# Altium schematic symbol library Battery.SchLib: 23 symbols
Pins are listed as number, name and electrical type; pins without a type are passive.

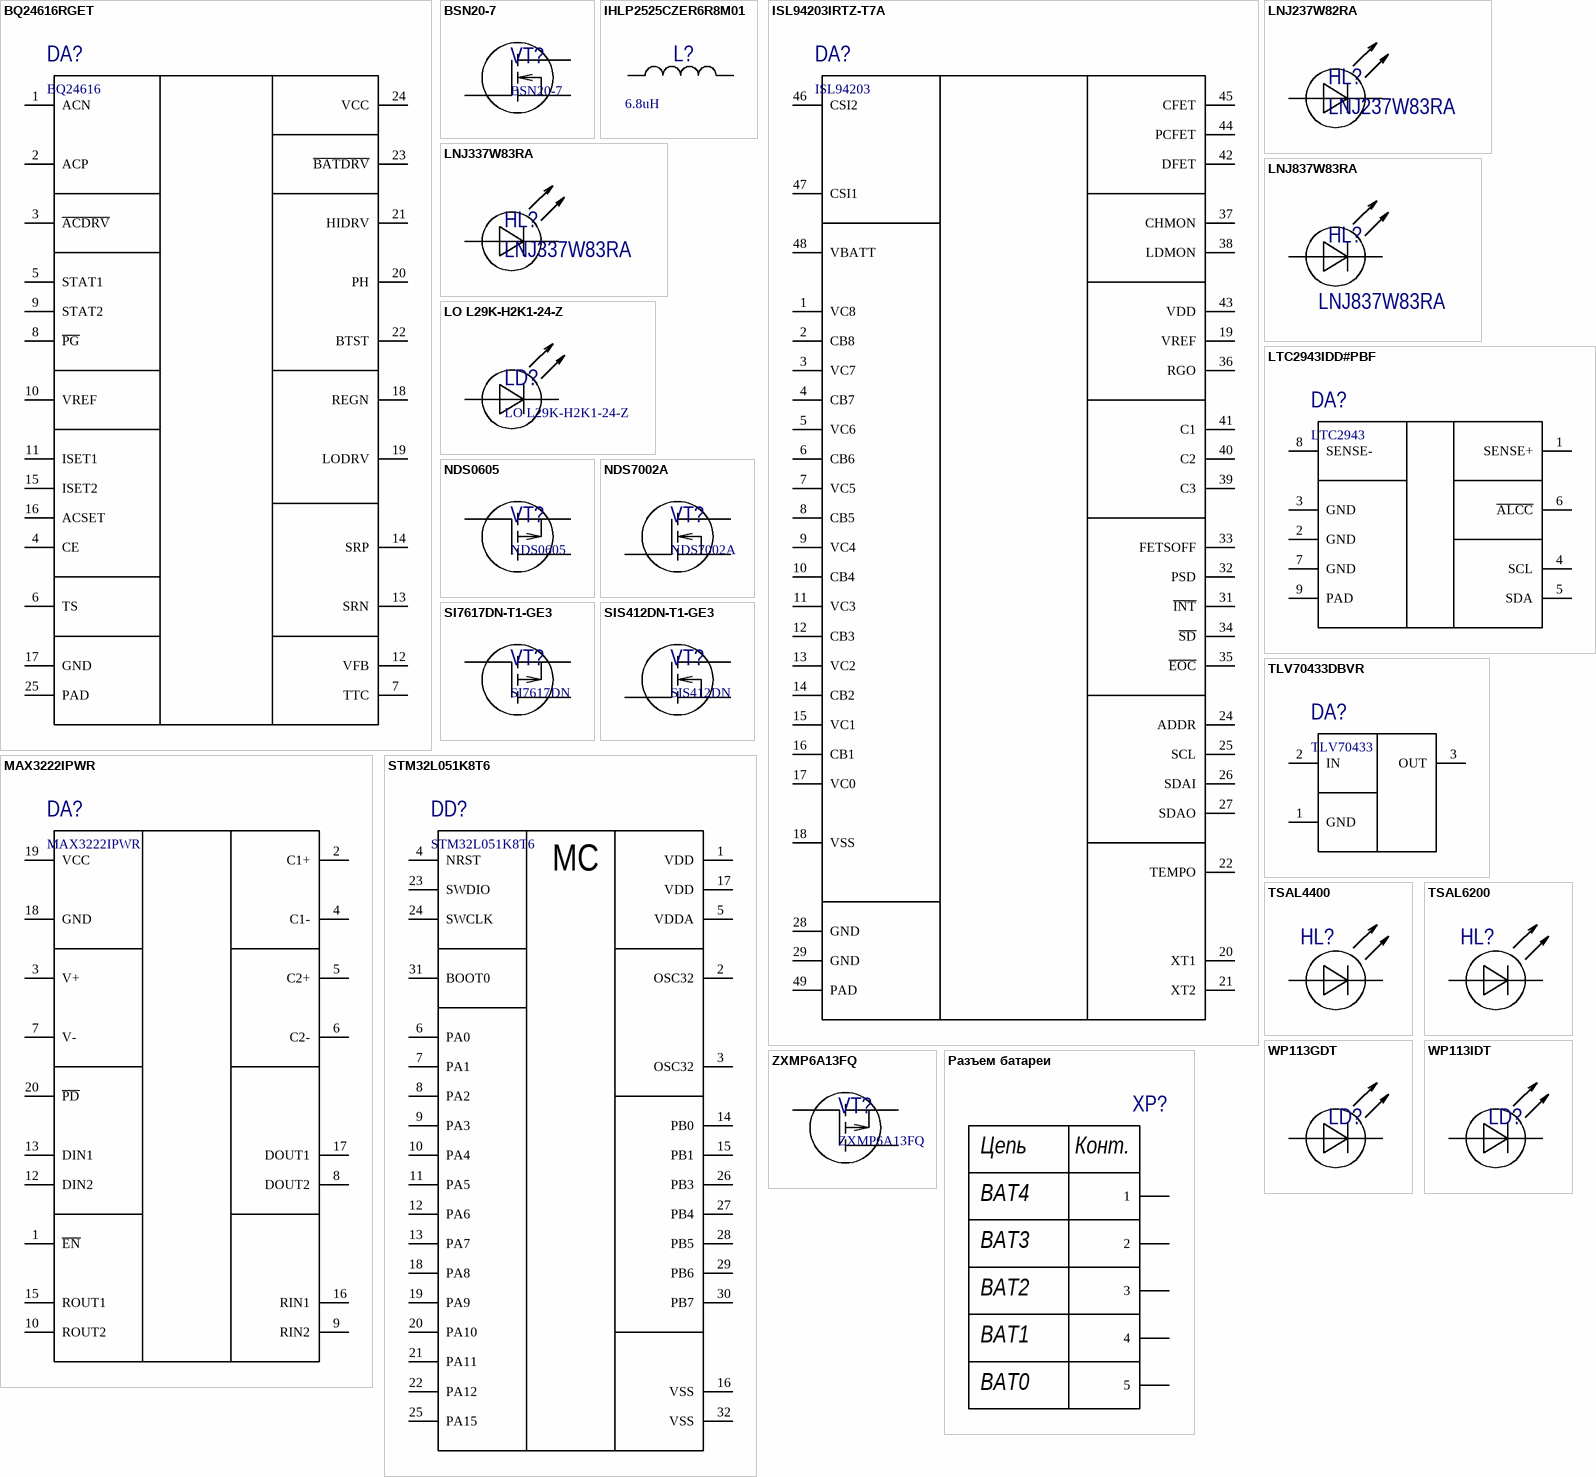
[diagram p0: symbols BQ24616RGET to Разъем батареи]

## BQ24616RGET
designator DA?, comment BQ24616
Stand-Alone Li-Ion Battarey Charger; PartNo: BQ24616RGET; Supplier 1: Digi-Key; Supplier Part Number 1: 296-27632-1-ND
pins: 1 ACN, 2 ACP, 3 ~{ACDRV}, 4 CE, 5 STAT1, 6 TS, 7 TTC, 8 ~{PG}, 9 STAT2, 10 VREF, 11 ISET1, 12 VFB, 13 SRN, 14 SRP, 15 ISET2, 16 ACSET, 17 GND, 18 REGN, 19 LODRV, 20 PH, 21 HIDRV, 22 BTST, 23 ~{BATDRV}, 24 VCC, 25 PAD

## BSN20-7
designator VT?
N-Channel MOSFET; Voltage: 50V; Current: 0.5A; PartNo: BSN20-7; Supplier 1: Digi-Key; Supplier Part Number 1: BSN20-7DICT-ND
footprint SOT95P232X100-3N (SOT23, 3-Leads, Body 2.92x2.32mm, Pitch 0.95mm, IPC Medium Density); pin to pad D>3 G>1 S>2
pins: D, G, S
1 alternate drawing of the same symbol

## IHLP2525CZER6R8M01
designator L?  value 6.8uH  (hidden comment: IHLP2525CZER6R8M01)
6.8 uH Inductor Vishai; Current: 8A; PartNo: IHLP2525CZER6R8M01; Supplier 1: Digi-Key; Supplier Part Number 1: 541-1011-1-ND
pins: 1, 2

## ISL94203IRTZ-T7A
designator DA?, comment ISL94203
3-to-8 Cell Li-Ion Battarey Pack Monitor; PartNo: ISL94203IRTZ-T7A; Supplier 1: Digi-Key; Supplier Part Number 1: ISL94203IRTZ-T7ACT-ND
footprint PQFN40P600X600X80_HS-49N (PQFN, 48-Leads, Body 6.00x6.00mm, Pitch 0.40mm, Thermal Pad 4.40x4.40mm, IPC Medium Density)
pins: 1 VC8, 2 CB8, 3 VC7, 4 CB7, 5 VC6, 6 CB6, 7 VC5, 8 CB5, 9 VC4, 10 CB4, 11 VC3, 12 CB3, 13 VC2, 14 CB2, 15 VC1, 16 CB1, 17 VC0, 18 VSS, 19 VREF, 20 XT1, 21 XT2, 22 TEMPO, 24 ADDR, 25 SCL, 26 SDAI, 27 SDAO, 28 GND, 29 GND, 31 ~{INT}, 32 PSD, 33 FETSOFF, 34 ~{SD}, 35 ~{EOC}, 36 RGO, 37 CHMON, 38 LDMON, 39 C3, 40 C2, 41 C1, 42 DFET, 43 VDD, 44 PCFET, 45 CFET, 46 CSI2, 47 CSI1, 48 VBATT, 49 PAD

## LNJ237W82RA
designator HL?, comment LNJ237W83RA
LED SMD Red; PartNo: LNJ237W83RA; Supplier 1: Digi-Key; Supplier Part Number 1: LNJ237W82RACT-ND; Color: Red
footprint LED1608X07N Panas Red (Chip LED, 2-Leads, Body 1.60x0.80mm, IPC Medium Density)
pins: 1, 2
1 alternate drawing of the same symbol

## LNJ337W83RA
designator HL?
LED SMD Yellow Green; PartNo: LNJ337W83RA; Supplier 1: Digi-Key; Supplier Part Number 1: LNJ337W83RACT-ND; Color: Yellow Green
footprint LED1608X07N Panas Green (Chip LED, 2-Leads, Body 1.60x0.80mm, IPC Medium Density)
pins: 1, 2
1 alternate drawing of the same symbol

## LNJ837W83RA
designator HL?
LED SMD Orange; PartNo: LNJ837W83RA; Supplier 1: Digi-Key; Supplier Part Number 1: LNJ837W83RACT-ND; Color: Orange
footprint LED1608X07N Panas Orange (Chip LED, 2-Leads, Body 1.60x0.80mm, IPC Medium Density)
pins: 1, 2
1 alternate drawing of the same symbol

## LO L29K-H2K1-24-Z
designator LD?
LED SMD; Color: Orange; PartNo: LO L29K-H2K1-24-Z; Supplier 1: Digi-Key; Supplier Part Number 1: 475-2740-1-ND
footprint LED1608X07N (Chip LED, 2-Leads, Body 1.60x0.80mm, IPC Medium Density)
pins: 1, 2
1 alternate drawing of the same symbol

## LTC2943IDD#PBF
designator DA?, comment LTC2943
Battary Gas Gauge; PartNo: LTC2943IDD#PBF; Supplier 1: Digi-Key; Supplier Part Number 1: LTC2943IDD#PBF-ND
footprint PSON50P300X80_HS-9N (PSON, 8-Leads, Body 3.00x3.00mm, Pitch 0.50mm, Thermal Pad 2.38x1.62mm, IPC Medium Density)
pins: 1 SENSE+, 2 GND, 3 GND, 4 SCL, 5 SDA, 6 ~{ALCC}, 7 GND, 8 SENSE-, 9 PAD

## MAX3222IPWR
designator DA?
RS-232 Line Driver with Shutdown; PartNo: MAX3222IPWR; Supplier 1: Digi-Key; Supplier Part Number 1: 296-13087-1-ND
footprint TSOP65P640X120-20N (TSOP, 20-Leads, Body 6.50x4.40mm, Pitch 0.65mm, IPC Medium Density)
pins: 1 ~{EN}, 2 C1+, 3 V+, 4 C1-, 5 C2+, 6 C2-, 7 V-, 8 DOUT2, 9 RIN2, 10 ROUT2, 12 DIN2, 13 DIN1, 15 ROUT1, 16 RIN1, 17 DOUT1, 18 GND, 19 VCC, 20 ~{PD}

## NDS0605
designator VT?
P-Channel MOSFET; Voltage: 60V; Current: 0.18A; PartNo: NDS0605; Supplier 1: Digi-Key; Supplier Part Number 1: NDS0605CT-ND
footprint SOT95P232X100-3N (SOT23, 3-Leads, Body 2.92x2.32mm, Pitch 0.95mm, IPC Medium Density); pin to pad D>3 G>1 S>2
pins: D, G, S
1 alternate drawing of the same symbol

## NDS7002A
designator VT?
N-Channel MOSFET; Voltage: 60V; Current: 0.28A; PartNo: NDS7002A; Supplier 1: Digi-Key; Supplier Part Number 1: NDS7002ACT-ND
footprint SOT95P232X100-3N (SOT23, 3-Leads, Body 2.92x2.32mm, Pitch 0.95mm, IPC Medium Density); pin to pad D>3 G>1 S>2
pins: D, G, S
1 alternate drawing of the same symbol

## SI7617DN-T1-GE3
designator VT?, comment SI7617DN
P-Channel MOSFET; PartNo: SI7617DN-T1-GE3; Voltage: 30V; Current: 35A; Supplier 1: Digi-Key; Supplier Part Number 1: SI7617DN-T1-GE3CT-ND
pins: D, G, S
1 alternate drawing of the same symbol

## SIS412DN-T1-GE3
designator VT?, comment SIS412DN
N-Channel MOSFET; PartNo: SIS412DN-T1-GE3; Voltage: 30V; Current: 12A; Supplier 1: Digi-Key; Supplier Part Number 1: SIS412DN-T1-GE3CT-ND
pins: D, G, S
1 alternate drawing of the same symbol

## STM32L051K8T6
designator DD?
Access line ultra-low-power ARM Cortex-M0+; Flash: 64 KB; SRAM: 8 KB; PartNo: STM32L051K8T6; Supplier 1: Digi-Key; Supplier Part Number 1: 497-14901-ND
footprint TQFP80P900X900X160-32N (TQFP, 32-Leads, Body 7.00x7.00mm, Pitch 0.80mm, IPC Medium Density)
pins: 1 VDD, 2 OSC32, 3 OSC32, 4 NRST, 5 VDDA, 6 PA0, 7 PA1, 8 PA2, 9 PA3, 10 PA4, 11 PA5, 12 PA6, 13 PA7, 14 PB0, 15 PB1, 16 VSS, 17 VDD, 18 PA8, 19 PA9, 20 PA10, 21 PA11, 22 PA12, 23 SWDIO, 24 SWCLK, 25 PA15, 26 PB3, 27 PB4, 28 PB5, 29 PB6, 30 PB7, 31 BOOT0, 32 VSS
text: MC

## TLV70433DBVR
designator DA?, comment TLV70433
24-V Input Voltage LDO; PartNo: TLV70433DBVR; Supplier 1: Digi-Key; Supplier Part Number 1: 296-39285-1-ND
footprint SOT95P280X145-5N (SOT23, 5-Leads, Body 2.90x2.80mm, Pitch 0.95mm, IPC Medium Density)
pins: 1 GND, 2 IN, 3 OUT

## TSAL4400
designator HL?, comment LO L29K-H2K1-24-Z  (value not drawn)
LED IR 940 nm 3mm; Color: Orange; PartNo: LO L29K-H2K1-24-Z; Supplier 1: Digi-Key; Supplier Part Number 1: 475-2740-1-ND
footprint T1 (3 mm) 2 pin 3mm up (LED Throuh hole, 3mm dia)
pins: 1, 2
1 alternate drawing of the same symbol

## TSAL6200
designator HL?, comment LO L29K-H2K1-24-Z  (value not drawn)
LED IR 940 nm; Color: Orange; PartNo: LO L29K-H2K1-24-Z; Supplier 1: Digi-Key; Supplier Part Number 1: 475-2740-1-ND
footprint T1-3/4 (5 mm) 2 pin (LED Throuh hole, 5mm dia)
pins: 1, 2
1 alternate drawing of the same symbol

## WP113GDT
designator LD?  (value not drawn)
LED Through hole Green; PartNo: WP113GDT; Supplier 1: Digi-Key; Supplier Part Number 1: 754-1200-ND; Color: Green
footprint WP113_Green (Прямоугольный светодиод)
pins: 1, 2
1 alternate drawing of the same symbol

## WP113IDT
designator LD?  (value not drawn)
LED Through hole Red; PartNo: WP113IDT; Supplier 1: Digi-Key; Supplier Part Number 1: 754-1201-ND; Color: Red
footprint WP113_Red (Прямоугольный светодиод)
pins: 1, 2
1 alternate drawing of the same symbol

## ZXMP6A13FQ
designator VT?
P-Channel MOSFET; Voltage: 60V; Current: 0.9A; PartNo: ZXMP6A13FQ; Supplier 1: Digi-Key; Supplier Part Number 1: ZXMP6A13FQTADICT-ND
footprint SOT95P232X100-3N (SOT23, 3-Leads, Body 2.92x2.32mm, Pitch 0.95mm, IPC Medium Density); pin to pad D>3 G>1 S>2
pins: D, G, S
1 alternate drawing of the same symbol

## Разъем батареи
designator XP?  (value not drawn)
Шпеньки для подключения батареи; Multiplier 2: 3; Multiplier 1: 2; Supplier 1: Digi-Key; Supplier 2: Digi-Key; Supplier Part Number 1: 36-1508-2-ND; Supplier Part Number 2: 36-1528-2-ND
footprint Connector Battery PDU_V (Разъем батареи ПДУ-В)
pins: 1, 2, 3, 4, 5
text: Цепь; Конт.; BAT4; BAT3; BAT2; BAT1; BAT0

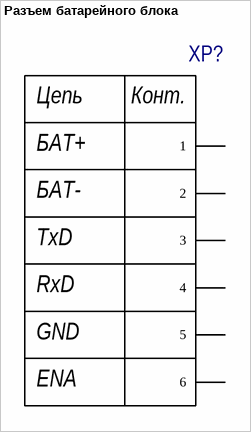
[diagram p1: symbol Разъем батарейного блока]

## Разъем батарейного блока
designator XP?  (value not drawn)
Шпеньки на батарею; Multiplier 1: 2; Multiplier 2: 4; Supplier 1: Digi-Key; Supplier 2: Digi-Key; Supplier Part Number 1: 36-1508-2-ND; Supplier Part Number 2: 36-1528-2-ND
footprint Connector PDU_V (Разъем на ПДУ-В)
pins: 1, 2, 3, 4, 5, 6
text: Цепь; Конт.; БАТ+; БАТ-; TxD; RxD; GND; ENA